# Altium integrated library BB Interface Bridge Driver.IntLib: 1 symbol
Pins are listed as number, name and electrical type; pins without a type are passive.

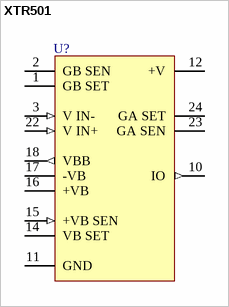
[diagram p0: symbol XTR501]

## XTR501
designator U?
High Current Bridge Driver and 4-20mA Transmitter; Note: No pins present at positions 4 to 9, 13 and 19 to 21.; Published: 8-Jun-2000; LatestRevisionDate: 17-Jul-2002; LatestRevisionNote: Re-released for DXP Platform.; DatasheetVersion: 1996~1997; PackageVersion: 1996/1997; PackageReference: ZZ902; Publisher: Altium Limited; PackageDescription: DIP; 24 Round Pins (10 Absent); Row Space 25.4 mm; Pitch 5.08 mm; ComponentLink1Description: Manufacturer Link; ComponentLink1URL: http://www.ti.com/
footprint ZZ902 (DIP; 24 Round Pins (10 Absent); Row Space 25.4 mm; Pitch 5.08 mm)
pins: 1 GB SET, 2 GB SEN, 3 V IN- (in), 10 IO (out), 11 GND (power), 12 +V (power), 14 VB SET, 15 +VB SEN (in), 16 +VB, 17 -VB, 18 VBB (out), 22 V IN+ (in), 23 GA SEN, 24 GA SET